# EAGLE library part SM51589PEL (library SamacSys_Parts)
BOURNS - SM51589PEL - Turns Ratio:1CT:1CT Source: Datasheet <https://www.bourns.com/data/global/pdfs/SM51589PEL.pdf>
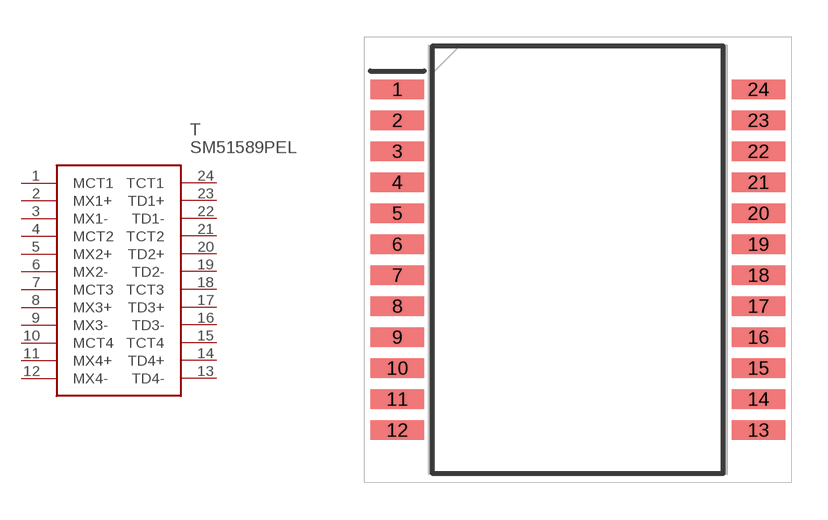
[diagram p28: symbol with the pads of SOIC127P1600X625-24N; footprint SOIC127P1600X625-24N]

Designator prefix T

## SM51589PEL (DESCRIPTION: BOURNS - SM51589PEL - Turns Ratio:1CT:1CT; HEIGHT: 6.25mm; MANUFACTURER_NAME: Bourns; MANUFACTURER_PART_NUMBER: SM51589PEL; MOUSER_PART_NUMBER: 652-SM51589PEL; MOUSER_PRICE-STOCK: https://www.mouser.co.uk/ProductDetail/Bourns/SM51589PEL?qs=ExN8d%252BuyjyzzAb%252BiS1DtIQ%3D%3D)  [SOIC127P1600X625-24N]
1  MCT1
2  MX1+
3  MX1-
4  MCT2
5  MX2+
6  MX2-
7  MCT3
8  MX3+
9  MX3-
10  MCT4
11  MX4+
12  MX4-
13  TD4-
14  TD4+
15  TCT4
16  TD3-
17  TD3+
18  TCT3
19  TD2-
20  TD2+
21  TCT2
22  TD1-
23  TD1+
24  TCT1

## Footprint SOIC127P1600X625-24N (pad centres in mm)
SM51589PEL
smd 2.2 x 0.8: 1 -7.4,6.985; 2 -7.4,5.715; 3 -7.4,4.445; 4 -7.4,3.175; 5 -7.4,1.905; 6 -7.4,0.635; 7 -7.4,-0.635; 8 -7.4,-1.905; 9 -7.4,-3.175; 10 -7.4,-4.445; 11 -7.4,-5.715; 12 -7.4,-6.985; 13 7.4,-6.985; 14 7.4,-5.715; 15 7.4,-4.445; 16 7.4,-3.175; 17 7.4,-1.905; 18 7.4,-0.635; 19 7.4,0.635; 20 7.4,1.905; 21 7.4,3.175; 22 7.4,4.445; 23 7.4,5.715; 24 7.4,6.985